# EAGLE library part PIN_SOCKET_FEMALE_2X08_16P (library 180118 Library by matsu)
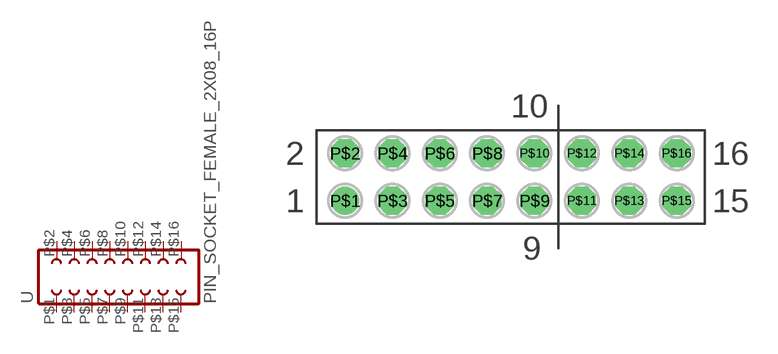
[diagram p30: symbol with the pads of PIN_SOCKET_FEMALE_2X08_16P; footprint PIN_SOCKET_FEMALE_2X08_16P]

Designator prefix -

## PIN_SOCKET_FEMALE_2X08_16P  [PIN_SOCKET_FEMALE_2X08_16P]
P$1  P$1
P$2  P$2
P$3  P$3
P$4  P$4
P$5  P$5
P$6  P$6
P$7  P$7
P$8  P$8
P$9  P$9
P$10  P$10
P$11  P$11
P$12  P$12
P$13  P$13
P$14  P$14
P$15  P$15
P$16  P$16

## Footprint PIN_SOCKET_FEMALE_2X08_16P (pad centres in mm)
drill 1: P$1 -8.89,-1.27
drill 1 octagon: P$2 -8.89,1.27; P$3 -6.35,-1.27; P$4 -6.35,1.27; P$5 -3.81,-1.27; P$6 -3.81,1.27; P$7 -1.27,-1.27; P$8 -1.27,1.27; P$9 1.27,-1.27; P$10 1.27,1.27; P$11 3.81,-1.27; P$12 3.81,1.27; P$13 6.35,-1.27; P$14 6.35,1.27; P$15 8.89,-1.27; P$16 8.89,1.27